# Altium footprint library SON.PcbLib: 8 footprints
Each footprint in its own frame and in the unit in brackets; x right, y up, seen from the top. Pads: shape width x height; smd on the part's side, far side on the other; paste and mask are expansions set on the pad; w line width, h text height; cw(c..) or ccw(c..) is an arc to the next point about the centre after c.
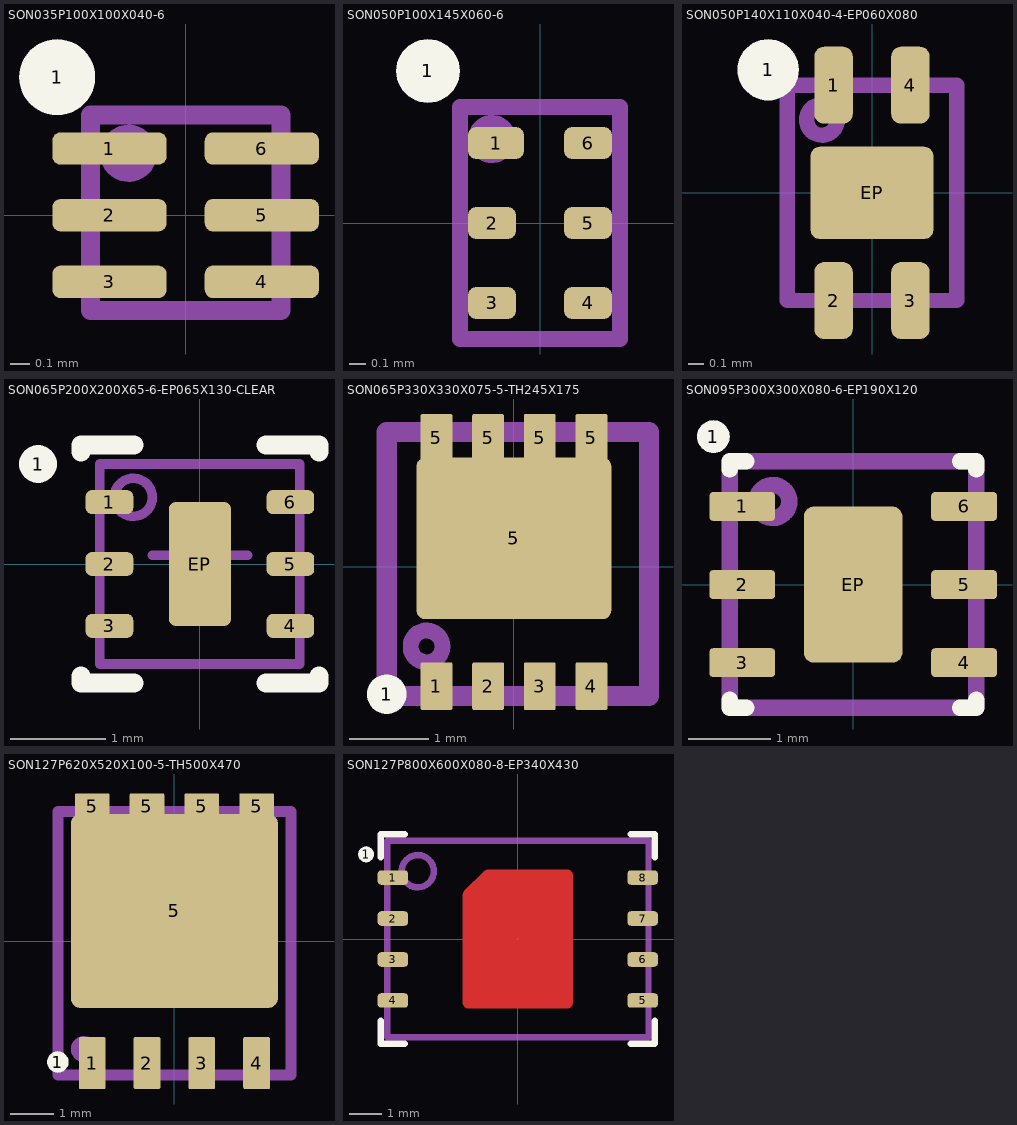
[diagram p0: the footprints below, top view; thin cyan lines are the x and y axes]

## SON035P100X100X040-6 [mm] "X2SON, 6-Leads, Body 1.00x1.00mm, Pitch 0.35mm, Ti Package DSF"
height 0.4
pads (7):
  round 0.4 on Top Overlay: 1(-0.675,0.725)
  rrect50% 0.6x0.17 smd: 1(-0.4,0.35) 2(-0.4,0) 3(-0.4,-0.35) 4(0.4,-0.35) 5(0.4,0) 6(0.4,0.35)
Top Assembly:
  circle w0.1: c-0.3,0.325 r0.1
  lines w0.1: -0.5,-0.5 0.5,-0.5 0.5,0.525 -0.5,0.525 -0.5,-0.5
3D body: height 0.65, standoff 0.02, extent -0.5,-0.5 0.5,0.5
3D body: height 0.13, standoff 0, extent -0.51,-0.1 -0.11,0.1
3D body: height 0.13, standoff 0, extent 0.11,-0.1 0.51,0.1
3D body: height 0.13, standoff 0, extent 0.11,0.25 0.51,0.45
3D body: height 0.13, standoff 0, extent 0.11,-0.45 0.51,-0.25
3D body: height 0.13, standoff 0, extent -0.51,-0.45 -0.11,-0.25
3D body: height 0.13, standoff 0, extent -0.51,0.25 -0.11,0.45

## SON050P100X145X060-6 [mm] "USON, 6-Leads, Body 1.00x1.45mm, Pitch 0.50mm, Ti Package DRY"
height 0.4
pads (7):
  round 0.4 on Top Overlay: 1(-0.7,0.95)
  rrect50% 0.35x0.2 smd: 1(-0.275,0.5)
  rrect50% 0.3x0.2 smd: 2(-0.3,0) 3(-0.3,-0.5) 4(0.3,-0.5) 5(0.3,0) 6(0.3,0.5)
Top Assembly:
  circle w0.1: c-0.3,0.525 r0.1
  lines w0.1: -0.5,-0.725 -0.5,0.725 0.5,0.725 0.5,-0.725 -0.5,-0.725
3D body: height 0.13, standoff 0, extent 0.15,0.4 0.45,0.6
3D body: height 0.13, standoff 0, extent -0.45,0.4 -0.1,0.6
3D body: height 0.13, standoff 0, extent -0.45,-0.1 -0.15,0.1
3D body: height 0.13, standoff 0, extent 0.15,-0.1 0.45,0.1
3D body: height 0.13, standoff 0, extent 0.15,-0.6 0.45,-0.4
3D body: height 0.65, standoff 0.02, extent -0.5,-0.725 0.5,0.725
3D body: height 0.13, standoff 0, extent -0.45,-0.6 -0.15,-0.4

## SON050P140X110X040-4-EP060X080 [mm] "X2SON, 4-Leads, Body 1.40x1.10mm, Pitch 0.50mm, Thermal Pad 0.60x0.80mm, Ti Package DMR"
height 0.4
pads (6):
  round 0.4 on Top Overlay: 1(-0.675,0.8)
  rrect50% 0.25x0.5 smd: 1(-0.25,0.7) 2(-0.25,-0.7) 3(0.25,-0.7) 4(0.25,0.7)
  rrect20% 0.8x0.6 smd: EP(0,0)
Top Assembly:
  circle w0.1: c-0.325,0.475 r0.1
  lines w0.1: -0.2,0 0.2,0 ; 0,-0.2 0,0.2 ; -0.55,-0.7 0.55,-0.7 0.55,0.7 -0.55,0.7 -0.55,-0.7
3D body: height 0.13, standoff 0, extent 0.15,0.51 0.35,0.71
3D body: height 0.2, standoff 0, extent -0.4,-0.3 0.4,0.3
3D body: height 0.65, standoff 0.02, extent -0.55,-0.7 0.55,0.7
3D body: height 0.13, standoff 0, extent -0.35,0.51 -0.15,0.71
3D body: height 0.13, standoff 0, extent 0.15,-0.71 0.35,-0.51
3D body: height 0.13, standoff 0, extent -0.348,-0.71 -0.148,-0.51

## SON065P200X200X65-6-EP065X130-CLEAR [mm] "SON, 6-Leads, Body 2.00x2.00mm, Pitch 0.65mm, Thermal Pad 1.30x0.65mm, clear, IPC Medium Density"
height 0.65
pads (8):
  round 0.4 on Top Overlay: 1(-1.7,1.05)
  rrect50% 0.5x0.25 smd: 1(-0.95,0.65) 2(-0.95,0) 3(-0.95,-0.65) 4(0.95,-0.65) 5(0.95,0) 6(0.95,0.65)
  rrect20% 0.65x1.3 smd: EP(0,0)
Top Overlay:
  lines w0.2: -1.25,-1.175 -1.25,-1.25 -0.695,-1.25 ; -1.25,1.175 -1.25,1.25 -0.695,1.25 ; 0.695,-1.25 1.25,-1.25 1.25,-1.175 ; 0.695,1.25 1.25,1.25 1.25,1.175
Top Assembly:
  circle w0.1: c-0.7,0.7 r0.2
  lines w0.1: -0.5,0.09 0.5,0.09 ; 0,-0.41 0,0.59 ; -1.05,-1.05 1.05,-1.05 1.05,1.05 -1.05,1.05 -1.05,-1.05
3D body: height 0.2, standoff 0, extent -0.325,-0.65 0.325,0.65
3D body: height 0.2, standoff 0, extent -1.071,0.5 -0.72,0.8
3D body: height 0.2, standoff 0, extent -1.071,-0.15 -0.72,0.15
3D body: height 0.2, standoff 0, extent -1.071,-0.8 -0.72,-0.5
3D body: height 0.2, standoff 0, extent 0.72,-0.8 1.071,-0.5
3D body: height 0.2, standoff 0, extent 0.72,0.5 1.071,0.8
3D body: height 0.65, standoff 0.02, extent -1.07,-1.05 1.07,1.05
3D body: height 0.2, standoff 0, extent 0.72,-0.15 1.071,0.15
3D body: height 0.35, standoff 0.2, extent -0.5,-0.5 0.5,0.5
3D body: height 0.39, standoff 0.35, extent -0.195,-0.155 0.195,0.335

## SON065P330X330X075-5-TH245X175 [mm]
pads (10):
  round 0.5 on Top Overlay: 1(-1.6,-1.6)
  rrect10% 0.4x0.6 smd: 1(-0.975,-1.5) 2(-0.325,-1.5) 3(0.325,-1.5) 4(0.975,-1.5) 5(-0.975,1.625) 5(-0.325,1.625) 5(0.325,1.625) 5(0.975,1.625)
  rrect10% 2.45x2.03 smd: 5(0,0.36)
Top Assembly:
  circle w0.2: c-1.1,-1 r0.2
  lines w0.254: -1.6,-1.625 1.7,-1.625 1.7,1.7 -1.6,1.7 -1.6,-1.625
3D body "SON065P330X330X075-5-TH245X175.stp": height 0.75, standoff 0, extent -1.65,-1.65 1.65,1.65

## SON095P300X300X080-6-EP190X120 [mm]
pads (8):
  round 0.4 on Top Overlay: 1(-1.7,1.8)
  rrect25% 0.8x0.35 smd: 1(-1.35,0.95) 2(-1.35,0) 3(-1.35,-0.95) 4(1.35,-0.95) 5(1.35,0) 6(1.35,0.95)
  rrect20% 1.2x1.9 smd: EP(0,0)
Top Overlay:
  lines w0.2: -1.5,-1.4 -1.5,-1.5 -1.3,-1.5 ; -1.5,1.4 -1.5,1.5 -1.3,1.5 ; 1.3,-1.5 1.5,-1.5 1.5,-1.4 ; 1.3,1.5 1.5,1.5 1.5,1.4
Top Assembly:
  circle w0.2: c-0.977,1.01 r0.2
  lines w0.2: -1.5,-1.5 -1.5,1.5 1.5,1.5 1.5,-1.5 -1.5,-1.5
3D body: height 0.2, standoff 0, extent -0.6,-0.95 0.6,0.95
3D body: height 0.2, standoff 0, extent 1.01,0.775 1.51,1.125
3D body: height 0.2, standoff 0, extent 1.01,-0.175 1.51,0.175
3D body: height 0.2, standoff 0, extent 1.01,-1.125 1.51,-0.775
3D body: height 0.2, standoff 0, extent -1.51,-1.125 -1.01,-0.775
3D body: height 0.2, standoff 0, extent -1.51,-0.175 -1.01,0.175
3D body: height 0.2, standoff 0, extent -1.51,0.775 -1.01,1.125
3D body: height 0.8, standoff 0.05, extent -1.5,-1.5 1.5,1.5

## SON127P620X520X100-5-TH500X470 [mm]
pads (10):
  round 0.5 on Top Overlay: 1(-2.7,-2.8)
  rrect10% 0.62x1.2 smd: 1(-1.905,-2.825) 2(-0.635,-2.825) 3(0.635,-2.825) 4(1.905,-2.825)
  rrect10% 0.8x0.6 smd: 5(-1.905,3.125) 5(-0.635,3.125) 5(0.635,3.125) 5(1.905,3.125)
  rrect10% 4.8x4.5 smd: 5(0,0.7)
Top Assembly:
  circle w0.2: c-2.1,-2.5 r0.2
  lines w0.254: -2.7,-3.1 2.7,-3.1 2.7,3 -2.7,3 -2.7,-3.1
3D body "SON127P620X520X100-5-TH500X470.stp": height 1, standoff 0, extent -2.685,-3.075 2.685,3.075

## SON127P800X600X080-8-EP340X430 [mm] "SON, 8-Leads, Body 6.00x8.00mm, Pitch 1.27mm, Thermal Pad 4.30x3.40mm, IPC Medium Density"
height 0.8
pads (10):
  round 0.5 on Top Overlay: 1(-4.7,2.625)
  rrect50% 0.95x0.45 smd: 1(-3.87,1.905) 2(-3.87,0.635) 3(-3.87,-0.635) 4(-3.87,-1.905) 5(3.87,-1.905) 6(3.87,-0.635) 7(3.87,0.635) 8(3.87,1.905)
  round 0.025 smd paste-1.7: EP(0,0)
Top Layer:
  region: 1.7,1.98 1.7,1.997 1.693,2.03 1.681,2.061 1.662,2.088 1.638,2.112 1.611,2.131 1.58,2.143 1.547,2.15 1.53,2.15 -0.894,2.15 -0.919,2.15 -0.969,2.14 -1.015,2.121 -1.057,2.093 -1.075,2.075 -1.625,1.525 -1.643,1.507 -1.671,1.465 -1.69,1.419 -1.7,1.369 -1.7,1.344 -1.7,-1.98 -1.7,-1.997 -1.693,-2.03 -1.681,-2.061 -1.662,-2.088 -1.638,-2.112 -1.611,-2.131 -1.58,-2.143 -1.547,-2.15 -1.53,-2.15 1.53,-2.15 1.547,-2.15 1.58,-2.143 1.611,-2.131 1.638,-2.112 1.662,-2.088 1.681,-2.061 1.693,-2.03 1.7,-1.997 1.7,-1.98
Top Overlay:
  lines w0.2: -4.25,-2.53 -4.25,-3.25 -3.495,-3.25 ; -4.25,2.53 -4.25,3.25 -3.495,3.25 ; 3.495,-3.25 4.25,-3.25 4.25,-2.53 ; 3.495,3.25 4.25,3.25 4.25,2.53
Top Paste:
  rectangle: -1.595,-0.615 -0.665,0.615
  rectangle: -1.595,-2.045 -0.665,-0.815
  rectangle: -0.465,0.815 0.465,2.045
  rectangle: -0.465,-0.615 0.465,0.615
  rectangle: -0.465,-2.045 0.465,-0.815
  rectangle: 0.665,0.815 1.595,2.045
  rectangle: 0.665,-0.615 1.595,0.615
  rectangle: 0.665,-2.045 1.595,-0.815
  region: -1.595,0.815 -0.665,0.815 -0.665,2.045 -0.955,2.045 -1.595,1.405
Top Assembly:
  circle w0.2: c-3.1,2.1 r0.5
  lines w0.2: -4.05,-3.05 -4.05,3.05 4.05,3.05 4.05,-3.05 -4.05,-3.05
3D body "DFN127P800X600X80-8-EP.step": height 0.8, standoff 0, extent -4.07,-3.05 4.07,3.05